# Altium schematic symbol library Integrated Circuits.SchLib: 8 symbols
Pins are listed as number, name and electrical type; pins without a type are passive.

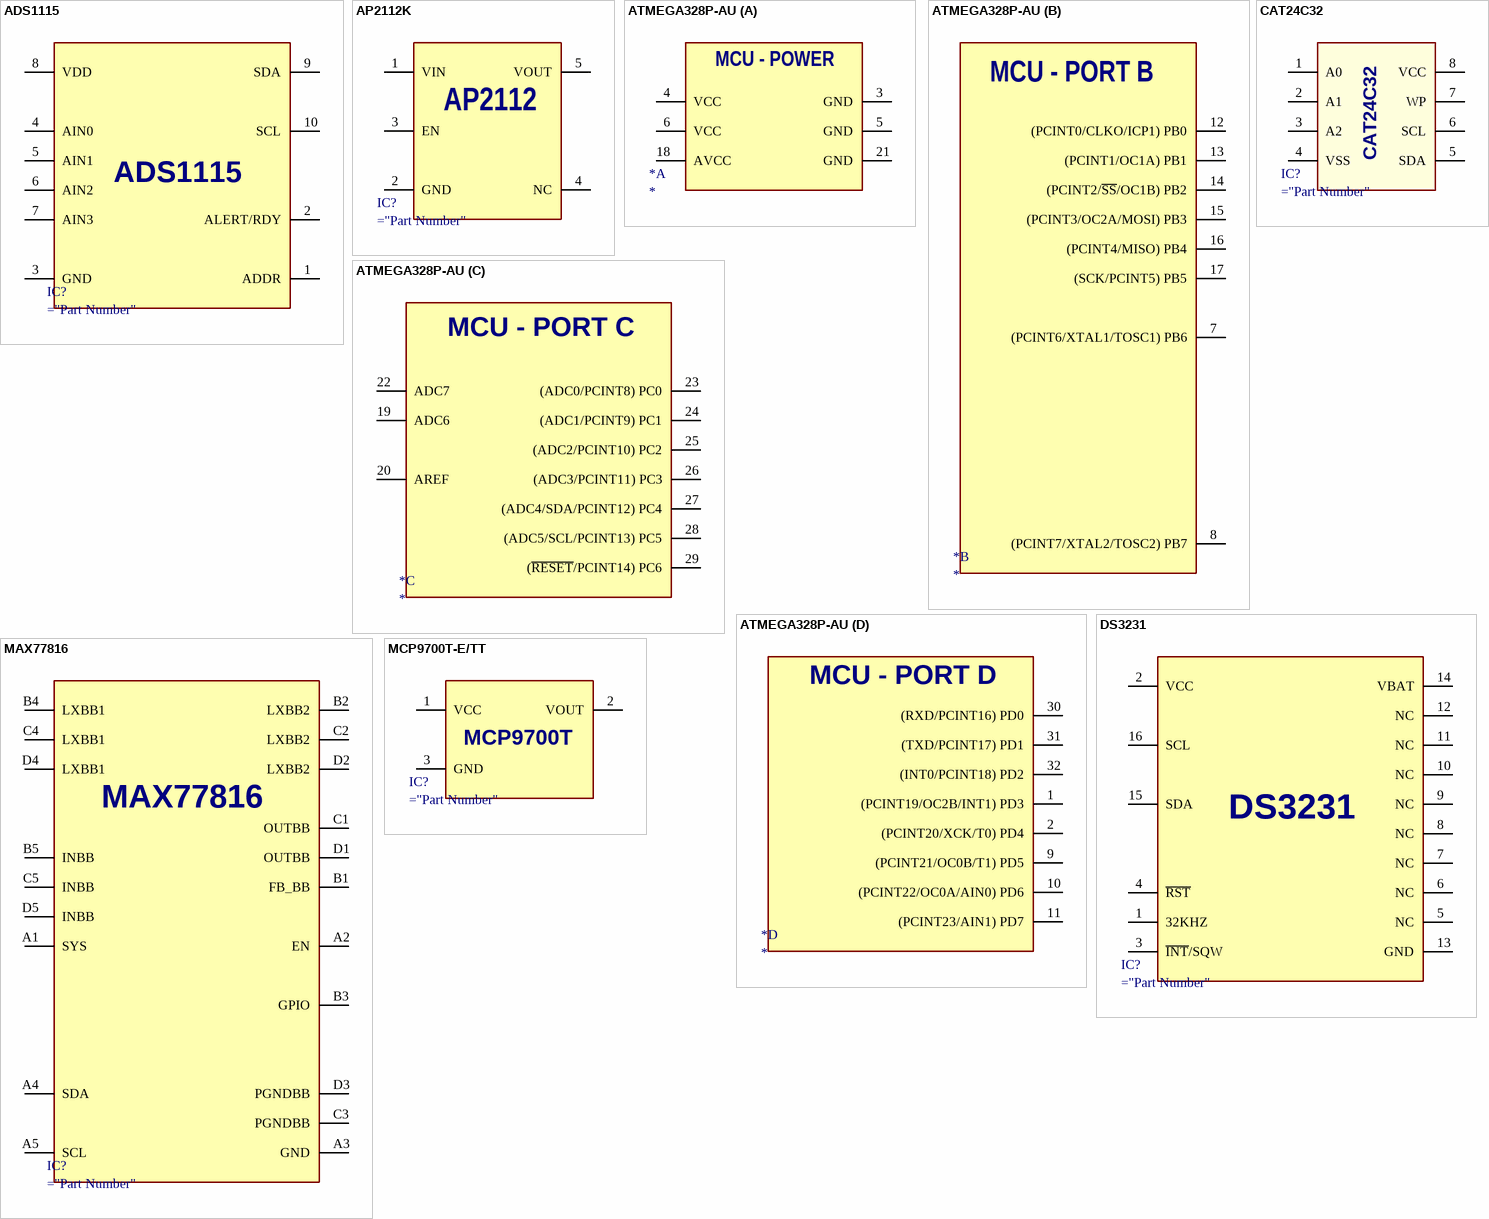
[diagram p0: symbols ADS1115 to MCP9700T-E/TT]

## ADS1115
designator IC?
pins: 1 ADDR, 2 ALERT/RDY, 3 GND, 4 AIN0, 5 AIN1, 6 AIN2, 7 AIN3, 8 VDD, 9 SDA, 10 SCL

## AP2112K
designator IC?
pins: 1 VIN, 2 GND, 3 EN, 4 NC, 5 VOUT
text: AP2112

## ATMEGA328P-AU
designator *
part A pins: 3 GND, 4 VCC, 5 GND, 6 VCC, 18 AVCC, 21 GND
part B pins: 7 (PCINT6/XTAL1/TOSC1) PB6, 8 (PCINT7/XTAL2/TOSC2) PB7, 12 (PCINT0/CLKO/ICP1) PB0, 13 (PCINT1/OC1A) PB1, 14 (PCINT2/~{SS}/OC1B) PB2, 15 (PCINT3/OC2A/MOSI) PB3, 16 (PCINT4/MISO) PB4, 17 (SCK/PCINT5) PB5
part C pins: 19 ADC6, 20 AREF, 22 ADC7, 23 (ADC0/PCINT8) PC0, 24 (ADC1/PCINT9) PC1, 25 (ADC2/PCINT10) PC2, 26 (ADC3/PCINT11) PC3, 27 (ADC4/SDA/PCINT12) PC4, 28 (ADC5/SCL/PCINT13) PC5, 29 (~{RESET}/PCINT14) PC6
part D pins: 1 (PCINT19/OC2B/INT1) PD3, 2 (PCINT20/XCK/T0) PD4, 9 (PCINT21/OC0B/T1) PD5, 10 (PCINT22/OC0A/AIN0) PD6, 11 (PCINT23/AIN1) PD7, 30 (RXD/PCINT16) PD0, 31 (TXD/PCINT17) PD1, 32 (INT0/PCINT18) PD2
part A text: MCU - POWER
part B text: MCU - PORT B
part C text: MCU - PORT C
part D text: MCU - PORT D

## CAT24C32
designator IC?
pins: 1 A0, 2 A1, 3 A2, 4 VSS, 5 SDA, 6 SCL, 7 WP, 8 VCC

## DS3231
designator IC?
pins: 1 32KHZ, 2 VCC, 3 ~{INT}/SQW, 4 ~{RST}, 5 NC, 6 NC, 7 NC, 8 NC, 9 NC, 10 NC, 11 NC, 12 NC, 13 GND, 14 VBAT, 15 SDA, 16 SCL

## MAX77816
designator IC?
pins: A1 SYS, A2 EN, A3 GND, A4 SDA, A5 SCL, B1 FB_BB, B2 LXBB2, B3 GPIO, B4 LXBB1, B5 INBB, C1 OUTBB, C2 LXBB2, C3 PGNDBB, C4 LXBB1, C5 INBB, D1 OUTBB, D2 LXBB2, D3 PGNDBB, D4 LXBB1, D5 INBB

## MCP9700T-E/TT
designator IC?
pins: 1 VCC, 2 VOUT, 3 GND
text: MCP9700T

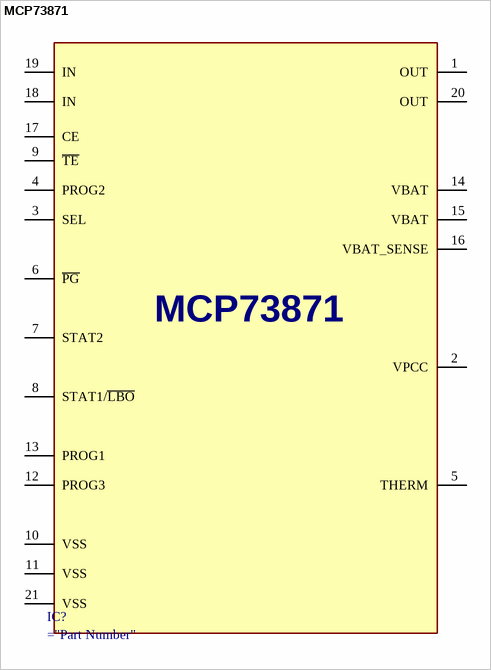
[diagram p1: symbol MCP73871]

## MCP73871
designator IC?
pins: 1 OUT, 2 VPCC, 3 SEL, 4 PROG2, 5 THERM, 6 ~{PG}, 7 STAT2, 8 STAT1/~{LBO}, 9 ~{TE}, 10 VSS, 11 VSS, 12 PROG3, 13 PROG1, 14 VBAT, 15 VBAT, 16 VBAT_SENSE, 17 CE, 18 IN, 19 IN, 20 OUT, 21 VSS